# EAGLE library part IR2101STRPBF (library Dennistries-Josh)
IR2101STRPBF Dual MOSFET Driver
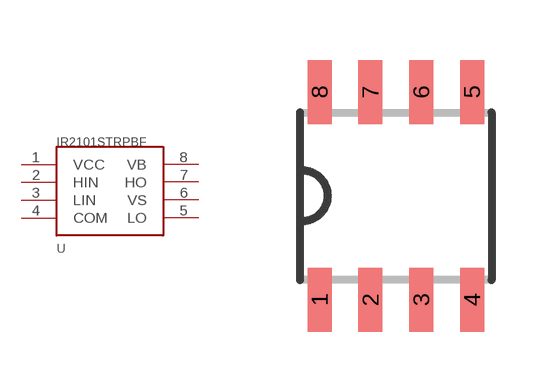
[diagram p3: symbol with the pads of SOP8; footprint SOP8]

Designator prefix -

## IR2101STRPBF  [SOP8]
1  VCC
2  HIN
3  LIN
4  COM
5  LO
6  VS
7  HO
8  VB

## Footprint SOP8 (pad centres in mm)
SOP8 Source: http://www.rohm.com/products/databook/motor/pdf/bd623x_series-e.pdf
smd 0.6 x 1.6: 1 -1.905,-2.6; 2 -0.635,-2.6; 3 0.635,-2.6; 4 1.905,-2.6; 5 1.905,2.6; 6 0.635,2.6; 7 -0.635,2.6; 8 -1.905,2.6